# Altium footprint library MSTBA_5-pin_header.PcbLib: 1 footprints
Each footprint in its own frame and in the unit in brackets; x right, y up, seen from the top. Pads: shape width x height; smd on the part's side, far side on the other; paste and mask are expansions set on the pad; w line width, h text height; cw(c..) or ccw(c..) is an arc to the next point about the centre after c.
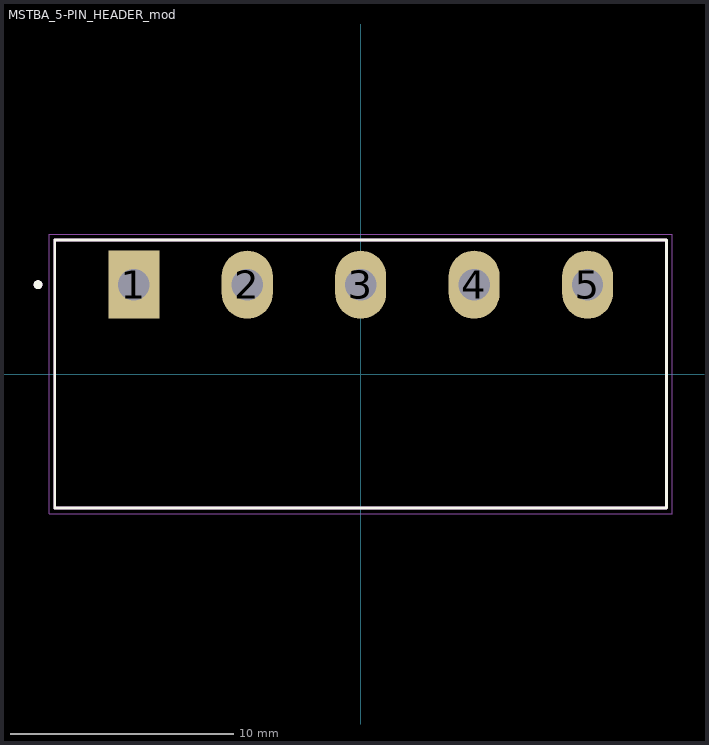
[diagram p0: the footprint, top view; thin cyan lines are the x and y axes]

## MSTBA_5-PIN_HEADER_mod [mil]
pads (5):
  rect 90x120 / inner oval 90x120 / far side rect 90x120 hole 55.12: 1(-400,157.48)
  oval 90x120 hole 55.12: 2(-200,157.48) 3(0,157.48) 4(200,157.48) 5(400,157.48)
Top Overlay:
  circle w7.87: c-568.9,157.48 r3.94
  lines w5: -539.37,-236.22 539.37,-236.22 539.37,236.22 -539.37,236.22 -539.37,-236.22
Mechanical 13:
  circle w7.87: c-568.9,157.48 r3.94
  lines w5: -539.37,-236.22 539.37,-236.22 539.37,236.22 -539.37,236.22 -539.37,-236.22
Mechanical 15:
  lines w1.97: -549.21,-246.06 549.21,-246.06 549.21,246.06 -549.21,246.06 -549.21,-246.06